# Altium schematic symbol library FMCW-Radar-v1.SchLib: 60 symbols (part 1 of 3)
Pins are listed as number, name and electrical type; pins without a type are passive.

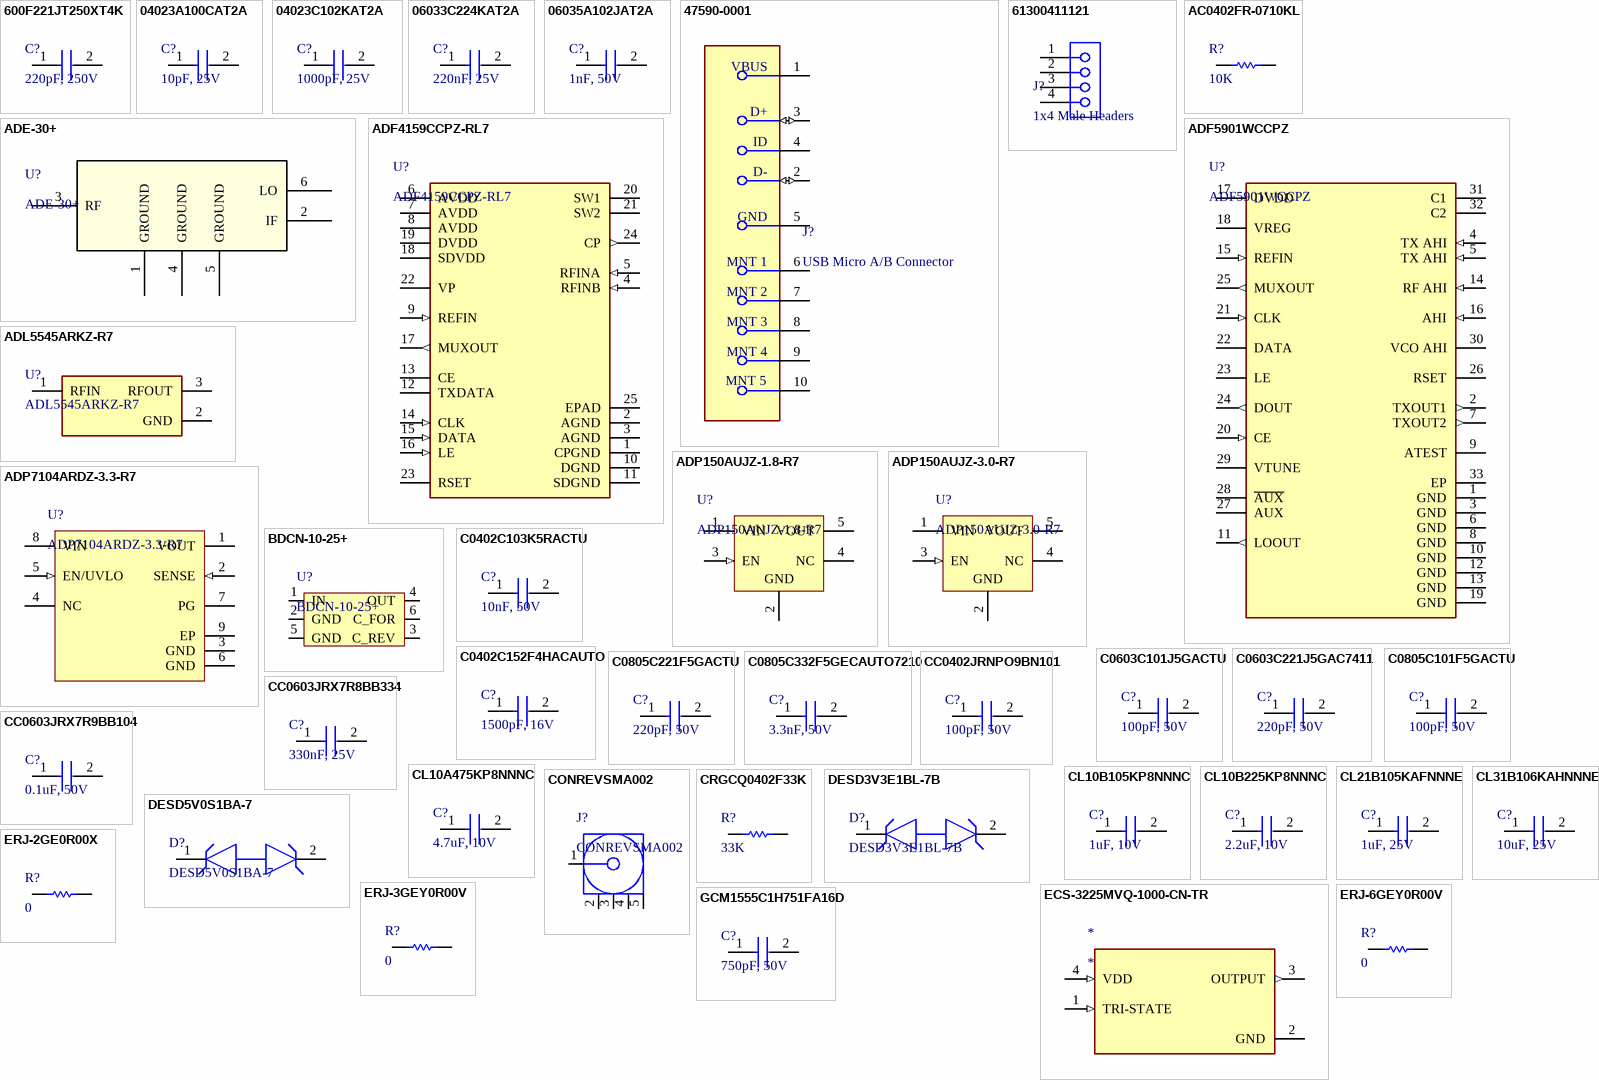
[diagram p0: symbols 600F221JT250XT4K to GCM1555C1H751FA16D]

## 600F221JT250XT4K
designator C?, comment 220pF, 250V
Cap Cer 220PF 250V C0G/NP0 0805; Manufacturer: Kyocera AVX; Manufacturer Part Number: 600F221JT250XT4K; Supplier: Digikey; Supplier Part Number: 478-600F221JT250XT4KCT-ND; RoHS: No; Stock: 4340; Pricing: 1=1.84, 10=1.234, 100=0.9202, 1000=0.75603 (USD)
footprint CAP_600F0R1AT250T_ATC-L
pins: 1, 2

## 04023A100CAT2A
designator C?, comment 10pF, 25V
Ceramic Capacitor, Multilayer, Ceramic, 25V, 2.5% +Tol, 2.5% -Tol, C0G, -/+30ppm/Cel TC, 0.00001uF, Surface Mount, 0402; Manufacturer: Kyocera AVX; Manufacturer Part Number: 04023A100CAT2A; Multilayer: Yes; Supplier: Digikey; Supplier Part Number: 478-12605-1-ND; RoHS: Yes; Category: Ceramic Capacitors; Stock: 37135; Pricing: 1=0.1, 10=0.031, 100=0.0176, 1000=0.01095, 2500=0.00932, 5000=0.00834 (USD); Mounting Technology: Surface Mount; Pins: 2; Dielectric Material: Ceramic; Package Shape: Rectangular; Case/Package: 0402; Terminal Finish: Nickel; Min Operating Temperature: -55°C; Max Operating Temperature: 125°C; JESD-609 Code: e3; Value: 10pF; Capacitor Type: Ceramic; Tolerance  (fill in as +-): 2.5%; Package Style: SMTMeter; Packaging: Tape and Reel; Tolerance (fill in as +-): 2.5%; Rated DC Voltage (URdc): 25V; Temperature Characteristics Code: C0G; Termination: Wraparound; Length: 1mm; Width: 0.5mm; Height: 0.56mm; Reach SVHC Compliant: Yes; RoHS Compliant: Yes; ComponentLink1URL: https://datasheet.ciiva.com:443/pdfs/VipMasterIC/IC/AVXC/AVXCS08560/AVXCS08560-1.pdf?src-supplier=IHS+Markit; ComponentLink1Description: https://datasheet.ciiva.com:443/pdfs/VipMasterIC/IC/AVXC/AVXCS08560/AVXCS08560-1.pdf?src-supplier=IHS+Markit; ComponentLink2URL: https://datasheet.ciiva.com/206/ccog-206334.pdf?src-supplier=Digikey; ComponentLink2Description: https://datasheet.ciiva.com/206/ccog-206334.pdf?src-supplier=Digikey; ComponentLink3URL: https://datasheet.ciiva.com/11519/ccog-11519270.pdf?src-supplier=Avnet; ComponentLink3Description: https://datasheet.ciiva.com/11519/ccog-11519270.pdf?src-supplier=Avnet; ComponentLink4URL: https://datasheet.ciiva.com/5419/ccog-5419960.pdf?src-supplier=Mouser; ComponentLink4Description: https://datasheet.ciiva.com/5419/ccog-5419960.pdf?src-supplier=Mouser; ComponentLink5URL: https://datasheet.ciiva.com/15212/getdatasheetpartid-659848-15212012.pdf?src-supplier=Verical; ComponentLink5Description: https://datasheet.ciiva.com/15212/getdatasheetpartid-659848-15212012.pdf?src-supplier=Verical
footprint CAPC1005X56X25NL10T15 (Chip Capacitor, 2-Leads, Body 1.00x0.50mm, IPC Medium Density)
pins: 1, 2

## 04023C102KAT2A
designator C?, comment 1000pF, 25V
Ceramic Capacitor, Multilayer, Ceramic, 25V, 10% +Tol, 10% -Tol, X7R, 15% TC, 0.001uF, Surface Mount, 0402; Manufacturer: Kyocera AVX; Manufacturer Part Number: 04023C102KAT2A; Value: 1nF; Multilayer: Yes; Supplier: Avnet; Supplier Part Number: 94W2836; RoHS: Yes; Category: Ceramic Capacitors; Stock: 13496; Pricing: 1=0.27, 25=0.179, 100=0.101, 250=0.089, 500=0.077 (USD); Mounting Technology: Surface Mount; Pins: 2; Dielectric Material: Ceramic; Package Shape: Rectangular; Case/Package: 0402; Terminal Finish: Nickel; Min Operating Temperature: -55°C; Max Operating Temperature: 125°C; JESD-609 Code: e3; Capacitor Type: Ceramic; Tolerance  (fill in as +-): 10%; Package Style: SMTMeter; Packaging: Tape and Reel; Tolerance (fill in as +-): 10%; Rated DC Voltage (URdc): 25V; Temperature Characteristics Code: X7R; Termination: Wraparound; Length: 1mm; Width: 0.5mm; Height: 0.56mm; Reach SVHC Compliant: Yes; RoHS Compliant: Yes; ComponentLink1URL: https://datasheet.ciiva.com:443/pdfs/VipMasterIC/IC/AVXC/AVXC-S-A0009640452/AVXC-S-A0009640452-1.pdf?src-supplier=IHS+Markit; ComponentLink1Description: https://datasheet.ciiva.com:443/pdfs/VipMasterIC/IC/AVXC/AVXC-S-A0009640452/AVXC-S-A0009640452-1.pdf?src-supplier=IHS+Markit; ComponentLink2URL: https://datasheet.ciiva.com/150/cx7r-150269.pdf?src-supplier=Digikey; ComponentLink2Description: https://datasheet.ciiva.com/150/cx7r-150269.pdf?src-supplier=Digikey; ComponentLink3URL: https://datasheet.ciiva.com/150/cx7r-150270.pdf?src-supplier=Digikey; ComponentLink3Description: https://datasheet.ciiva.com/150/cx7r-150270.pdf?src-supplier=Digikey; ComponentLink4URL: https://datasheet.ciiva.com/150/cx7r-150271.pdf?src-supplier=Digikey; ComponentLink4Description: https://datasheet.ciiva.com/150/cx7r-150271.pdf?src-supplier=Digikey; ComponentLink5URL: https://datasheet.ciiva.com/5416/cx7r-218113-5416554.pdf?src-supplier=Mouser; ComponentLink5Description: https://datasheet.ciiva.com/5416/cx7r-218113-5416554.pdf?src-supplier=Mouser; ComponentLink6URL: https://datasheet.ciiva.com/22619/1679506-22619707.pdf?src-supplier=Element14; ComponentLink6Description: https://datasheet.ciiva.com/22619/1679506-22619707.pdf?src-supplier=Element14; ComponentLink7URL: https://datasheet.ciiva.com/16395/cx7r-16395543.pdf?src-supplier=Future+Electronics; ComponentLink7Description: https://datasheet.ciiva.com/16395/cx7r-16395543.pdf?src-supplier=Future+Electronics; ComponentLink8URL: https://datasheet.ciiva.com/28453/1679506-28453691.pdf?src-supplier=Element14; ComponentLink8Description: https://datasheet.ciiva.com/28453/1679506-28453691.pdf?src-supplier=Element14
footprint FP-0402-L_1_0_1-W_0_5_0_1-IPC_C
pins: 1, 2

## 06033C224KAT2A
designator C?, comment 220nF, 25V
Ceramic Capacitor, Multilayer, Ceramic, 25V, 10% +Tol, 10% -Tol, X7R, 15% TC, 0.22uF, Surface Mount, 0603; Manufacturer: Kyocera AVX; Manufacturer Part Number: 06033C224KAT2A; Multilayer: Yes; Supplier: Mouser; Supplier Part Number: 581-06033C224KAT2A; RoHS: Yes; Category: Ceramic Capacitors; Stock: 50562; Pricing: 1=0.27, 10=0.264, 50=0.264, 100=0.254, 1000=0.254, 10000=0.239 (USD); Mounting Technology: Surface Mount; Pins: 2; Dielectric Material: Ceramic; Package Shape: Rectangular; Case/Package: 0603; Terminal Finish: Nickel; Min Operating Temperature: -55°C; Max Operating Temperature: 125°C; JESD-609 Code: e3; Value: 220nF; Capacitor Type: Ceramic; Tolerance  (fill in as +-): 10%; Package Style: SMTMeter; Packaging: Tape and Reel; Tolerance (fill in as +-): 10%; Rated DC Voltage (URdc): 25V; Temperature Characteristics Code: X7R; Termination: Wraparound; Length: 1.6mm; Width: 0.81mm; Height: 0.94mm; Reach SVHC Compliant: Yes; RoHS Compliant: Yes; ComponentLink1URL: https://datasheet.ciiva.com:443/pdfs/VipMasterIC/IC/AVXC/AVXC-S-A0009640452/AVXC-S-A0009640452-1.pdf?src-supplier=IHS+Markit; ComponentLink1Description: https://datasheet.ciiva.com:443/pdfs/VipMasterIC/IC/AVXC/AVXC-S-A0009640452/AVXC-S-A0009640452-1.pdf?src-supplier=IHS+Markit; ComponentLink2URL: https://datasheet.ciiva.com/11557/cx7r-11557469.pdf?src-supplier=Avnet; ComponentLink2Description: https://datasheet.ciiva.com/11557/cx7r-11557469.pdf?src-supplier=Avnet; ComponentLink3URL: https://datasheet.ciiva.com/1124/1679506-1124598.pdf?src-supplier=Element14; ComponentLink3Description: https://datasheet.ciiva.com/1124/1679506-1124598.pdf?src-supplier=Element14; ComponentLink4URL: https://datasheet.ciiva.com/22700/1679506-22700567.pdf?src-supplier=Element14; ComponentLink4Description: https://datasheet.ciiva.com/22700/1679506-22700567.pdf?src-supplier=Element14; ComponentLink5URL: https://datasheet.ciiva.com/15212/getdatasheetpartid-224009-15212215.pdf?src-supplier=Verical; ComponentLink5Description: https://datasheet.ciiva.com/15212/getdatasheetpartid-224009-15212215.pdf?src-supplier=Verical; ComponentLink6URL: https://datasheet.ciiva.com/7855/1679506-7855048.pdf?src-supplier=Element14; ComponentLink6Description: https://datasheet.ciiva.com/7855/1679506-7855048.pdf?src-supplier=Element14
footprint FP-0603-L_1_6_0_15-W_0_81-IPC_C
pins: 1, 2

## 06035A102JAT2A
designator C?, comment 1nF, 50V
Ceramic Capacitor, Multilayer, Ceramic, 50V, 5% +Tol, 5% -Tol, C0G, 30ppm/Cel TC, 0.001uF, Surface Mount, 0603; Manufacturer: Kyocera AVX; Manufacturer Part Number: 06035A102JAT2A; Multilayer: Yes; Supplier: Digikey; Supplier Part Number: 478-KGM15ACG1H102JTCT-ND; RoHS: Yes; Category: Ceramic Capacitors; Stock: 540000; Pricing: 4000=0.00488, 8000=0.00454, 16000=0.00447, 24000=0.00439, 32000=0.00431 (USD); Mounting Technology: Surface Mount; Pins: 2; Dielectric Material: Ceramic; Package Shape: Rectangular; Case/Package: 0603; Terminal Finish: Nickel; Min Operating Temperature: -55°C; Max Operating Temperature: 125°C; JESD-609 Code: e3; Value: 1nF; Capacitor Type: Ceramic; Tolerance  (fill in as +-): 5%; Package Style: SMTMeter; Packaging: Tape and Reel; Tolerance (fill in as +-): 5%; Rated DC Voltage (URdc): 50V; Temperature Characteristics Code: C0G; Termination: Wraparound; Length: 1.6mm; Width: 0.81mm; Height: 0.9mm; RoHS Compliant: Yes; Reach SVHC Compliant: Yes; ComponentLink1URL: https://datasheet.ciiva.com:443/pdfs/VipMasterIC/IC/AVXC/AVXC-S-A0008899940/AVXC-S-A0008899940-1.pdf?src-supplier=IHS+Markit; ComponentLink1Description: https://datasheet.ciiva.com:443/pdfs/VipMasterIC/IC/AVXC/AVXC-S-A0008899940/AVXC-S-A0008899940-1.pdf?src-supplier=IHS+Markit; ComponentLink2URL: https://datasheet.ciiva.com/11786/0900766b802d4697-11786950.pdf?src-supplier=Rs; ComponentLink2Description: https://datasheet.ciiva.com/11786/0900766b802d4697-11786950.pdf?src-supplier=Rs; ComponentLink3URL: https://datasheet.ciiva.com/11464/ccog-11464573.pdf?src-supplier=Avnet; ComponentLink3Description: https://datasheet.ciiva.com/11464/ccog-11464573.pdf?src-supplier=Avnet; ComponentLink4URL: https://datasheet.ciiva.com/16363/ccog-16363640.pdf?src-supplier=Future+Electronics; ComponentLink4Description: https://datasheet.ciiva.com/16363/ccog-16363640.pdf?src-supplier=Future+Electronics; ComponentLink5URL: https://datasheet.ciiva.com/1124/759117-1124717.pdf?src-supplier=Element14; ComponentLink5Description: https://datasheet.ciiva.com/1124/759117-1124717.pdf?src-supplier=Element14; ComponentLink6URL: https://datasheet.ciiva.com/1124/759117-1124716.pdf?src-supplier=Element14; ComponentLink6Description: https://datasheet.ciiva.com/1124/759117-1124716.pdf?src-supplier=Element14; ComponentLink7URL: https://datasheet.ciiva.com/1466/26712-1466099.pdf?src-supplier=Farnell; ComponentLink7Description: https://datasheet.ciiva.com/1466/26712-1466099.pdf?src-supplier=Farnell; ComponentLink8URL: https://datasheet.ciiva.com/1124/26712-1124715.pdf?src-supplier=Element14; ComponentLink8Description: https://datasheet.ciiva.com/1124/26712-1124715.pdf?src-supplier=Element14; ComponentLink9URL: https://datasheet.ciiva.com/150/ccog-150886.pdf?src-supplier=Digikey; ComponentLink9Description: https://datasheet.ciiva.com/150/ccog-150886.pdf?src-supplier=Digikey; ComponentLink10URL: https://datasheet.ciiva.com/150/ccog-150885.pdf?src-supplier=Digikey; ComponentLink10Description: https://datasheet.ciiva.com/150/ccog-150885.pdf?src-supplier=Digikey; ComponentLink11URL: https://datasheet.ciiva.com/150/ccog-150887.pdf?src-supplier=Digikey; ComponentLink11Description: https://datasheet.ciiva.com/150/ccog-150887.pdf?src-supplier=Digikey; ComponentLink12URL: https://datasheet.ciiva.com/14585/70001039-14585948.pdf?src-supplier=Allied+Electronics; ComponentLink12Description: https://datasheet.ciiva.com/14585/70001039-14585948.pdf?src-supplier=Allied+Electronics
footprint FP-0603-L_1_6_0_15-W_0_81-IPC_C
pins: 1, 2

## 47590-0001
designator J?, comment USB Micro A/B Connector
USB Connector, 5 Contact(s), Female, Right Angle, Surface Mount Terminal, Locking, Receptacle; Manufacturer: Molex; Manufacturer Part Number: 47590-0001; Connector Type: TELECOM AND DATACOM CONNECTOR; Option: General Purpose; Additional Feature: Shielded; Board Mounting Option: PEG; Contact Resistance: 30mR; Dielectric Withstanding Voltage (AC): 141V; Durability: 10000Cycles; Empty Shell: No; Insulation Resistance: 1GR; Number Of Connectors: 1; PCB Contact Pattern: RECTANGULAR; Polarization Key: POLAR PIN POSITION; Rated Current (Signal): 1A; Number of Contacts: 5; Body Breadth: 0.118inch; Body Depth: 0.232inch; Body Length: 0.295inch; Reference Standard: UL; Reliability: COMMERCIAL; Supplier: Digikey; Supplier Part Number: WM17144TR-ND; RoHS: Yes; Category: USB Connectors; Stock: 34500; Pricing: 1500=0.44663, 3000=0.42531, 4500=0.41332, 7500=0.39869, 10500=0.38935, 15000=0.37968 (USD); Mounting Technology: Cable; Contact Material: Copper Alloy; Contact Finish - Mating: GOLD; Contact Finish - Termination: Gold (Au); Insulation Material: Polymer; Shell Finish: Tin; Shell Material: Stainless Steel; Min Operating Temperature: -30°C; Max Operating Temperature: 85°C; JESD-609 Code: e4; Body/Shell Style: RECEPTACLE; Contact Gender: Female; Filter Feature: No; Mixed Contacts: No; Mounting Style: RIGHT ANGLE; Number Of PCB Rows: 1; Termination: SMD/SMT; Mounting Option 1: LOCKING; Terminal Pitch: 0.6604mm; Reach SVHC Compliant: Yes; RoHS Compliant: Yes; DIN Conformance: No; IEC Conformance: No; MIL Conformance: No; ComponentLink1URL: https://datasheet.ciiva.com:443/pdfs/VipMasterIC/IC/MOLE/MOLE-S-A0000442751/MOLE-S-A0000443003-1.pdf?src-supplier=IHS+Markit; ComponentLink1Description: https://datasheet.ciiva.com:443/pdfs/VipMasterIC/IC/MOLE/MOLE-S-A0000442751/MOLE-S-A0000443003-1.pdf?src-supplier=IHS+Markit; ComponentLink2URL: https://datasheet.ciiva.com/11731/0900766b80dfe0a6-11731294.pdf?src-supplier=Rs; ComponentLink2Description: https://datasheet.ciiva.com/11731/0900766b80dfe0a6-11731294.pdf?src-supplier=Rs; ComponentLink3URL: https://datasheet.ciiva.com/1098/1597781-1098479.pdf?src-supplier=Element14; ComponentLink3Description: https://datasheet.ciiva.com/1098/1597781-1098479.pdf?src-supplier=Element14; ComponentLink4URL: https://datasheet.ciiva.com/30249/0475900001-io-connectors-30249603.pdf?src-supplier=Onlinecomponents.com; ComponentLink4Description: https://datasheet.ciiva.com/30249/0475900001-io-connectors-30249603.pdf?src-supplier=Onlinecomponents.com; ComponentLink5URL: https://datasheet.ciiva.com/26930/getdatasheetpartid-760223-26930053.pdf?src-supplier=Verical; ComponentLink5Description: https://datasheet.ciiva.com/26930/getdatasheetpartid-760223-26930053.pdf?src-supplier=Verical; ComponentLink6URL: https://datasheet.ciiva.com/16148/0475900001-io-connectors-16148922.pdf?src-supplier=Onlinecomponents.com; ComponentLink6Description: https://datasheet.ciiva.com/16148/0475900001-io-connectors-16148922.pdf?src-supplier=Onlinecomponents.com
footprint FP-47590-0001-MFG
pins: 1 VBUS (power), 2 D- (io), 3 D+ (io), 4 ID, 5 GND (power), 6 MNT 1, 7 MNT 2, 8 MNT 3, 9 MNT 4, 10 MNT 5

## 61300411121
designator J?, comment 1x4 Male Headers
Board Connector, 4 Contact(s), 1 Row(s), Male, Straight, 0.1 inch Pitch, Solder Terminal, Locking, Black Insulator, Plug; Manufacturer: Wurth Electronics; Manufacturer Part Number: 61300411121; Contact Pattern: RECTANGULAR; Contact Resistance: 20mR; Contact Style: SQ PIN-SKT; Dielectric Withstanding Voltage (AC): 500V; Insulation Resistance: 1GR; Number Of Connectors: 1; Rated Current (Signal): 3A; Number of Contacts: 4; Body Length: 0.4inch; Reference Standard: UL; Reliability: COMMERCIAL; Supplier: Digikey; Supplier Part Number: 732-5317-ND; RoHS: Yes; Category: Headers and Wire Housings; Stock: 73347; Pricing: 1=0.17, 10=0.147, 25=0.1216, 50=0.1018, 100=0.0918, 1000=0.085 (USD); Mounting Technology: Board; Contact Material: Copper Alloy; Contact Finish - Mating: GOLD; Contact Finish - Termination: Gold (Au) - with Nickel (Ni) barrier; Insulation Color: Black; Insulation Material: Polybutylene; Min Operating Temperature: -40°C; Max Operating Temperature: 125°C; Connector Type: BOARD CONNECTOR; JESD-609 Code: e4; Body/Shell Style: PLUG; Contact Gender: Male; Mounting Style: STRAIGHT; Number of Rows Loaded: 1; PCB Contact Pattern: RECTANGULAR; Termination: Solder; Body Breadth: 0.1inch; Body Depth: 0.1inch; Mating Contact Pitch: 0.1inch; Mounting Option 1: LOCKING; Terminal Length: 0.118inch; Terminal Pitch: 2.54mm; Reach SVHC Compliant: Yes; RoHS Compliant: Yes; ComponentLink1URL: https://datasheet.ciiva.com:443/pdfs/VipMasterIC/IC/MIDC/MIDCS07676/MIDCS07676-1.pdf?src-supplier=IHS+Markit; ComponentLink1Description: https://datasheet.ciiva.com:443/pdfs/VipMasterIC/IC/MIDC/MIDCS07676/MIDCS07676-1.pdf?src-supplier=IHS+Markit; ComponentLink2URL: https://datasheet.octopart.com/61300411121-W%C3%BCrth-Elektronik-datasheet-21154836.pdf?src-supplier=Element14; ComponentLink2Description: https://datasheet.octopart.com/61300411121-W%C3%BCrth-Elektronik-datasheet-21154836.pdf?src-supplier=Element14; ComponentLink3URL: http://www.farnell.com/cad/1737268.pdf?src-supplier=Element14; ComponentLink3Description: http://www.farnell.com/cad/1737268.pdf?src-supplier=Element14; ComponentLink4URL: https://katalog.we-online.de/em/datasheet/6130xx11121.pdf?src-supplier=Digikey; ComponentLink4Description: https://katalog.we-online.de/em/datasheet/6130xx11121.pdf?src-supplier=Digikey
footprint 61300411121 (Pin Header, pitch 2.54 mm, THT, Vertical, single row, 4p)
pins: 1, 2, 3, 4

## AC0402FR-0710KL
designator R?, comment 10K
Fixed Resistor, Metal Glaze/thick Film, 0.0625W, 10000ohm, 50V, 1% +/-Tol, 100ppm/Cel, Surface Mount, 0402; Manufacturer: Yageo; Manufacturer Part Number: AC0402FR-0710KL; Additional Feature: LASER TRIMMABLE; Power: 62.5mW; Rated Temperature: 70°C; Value: 10kR; Temperature Coefficient (ppm/Cel): 100; Package Height: 0.32mm; Package Length: 1mm; Package Width: 0.5mm; Reference Standard: AEC-Q200; Supplier: Digikey; Supplier Part Number: YAG3436CT-ND; RoHS: Yes; Category: Chip SMD Resistors; Stock: 889565; Pricing: 1=0.1, 10=0.009, 100=0.0082, 1000=0.00612, 2500=0.0051, 5000=0.00407 (USD); Mounting Technology: Surface Mount; Pins: 2; Package Shape: Rectangular; Case/Package: 0402; Terminal Finish: Nickel; Min Operating Temperature: -55°C; Max Operating Temperature: 155°C; Tolerance: 1%; JESD-609 Code: e3; Resistor Type: FIXED RESISTOR; Construction: Chip; Packaging: Tape and Reel; Technology: METAL GLAZE/THICK FILM; Termination: Wraparound; Working Voltage: 50V; Reach SVHC Compliant: Yes; RoHS Compliant: Yes; ComponentLink1URL: https://datasheet.ciiva.com:443/pdfs/VipMasterIC/IC/YAGO/YAGO-S-A0003597364/YAGO-S-A0003597364-1.pdf?src-supplier=IHS+Markit; ComponentLink1Description: https://datasheet.ciiva.com:443/pdfs/VipMasterIC/IC/YAGO/YAGO-S-A0003597364/YAGO-S-A0003597364-1.pdf?src-supplier=IHS+Markit; ComponentLink2URL: https://datasheet.ciiva.com/12656/pyu-ac-51-rohs-l-2-12656634.pdf?src-supplier=Mouser; ComponentLink2Description: https://datasheet.ciiva.com/12656/pyu-ac-51-rohs-l-2-12656634.pdf?src-supplier=Mouser
footprint RESC1005X37N
pins: 1, 2

## ADE-30+
designator U?
IC MIXER 200MHZ-3GHZ SMD; Manufacturer: Mini-Circuits; Supplier: Digikey; Supplier Part Number: 3157-ADE-30+CT-ND; Manufacturer Part Number: ADE-30+
footprint CD542_MNC
pins: 1 GROUND (power), 2 IF, 3 RF, 4 GROUND (power), 5 GROUND (power), 6 LO

## ADF4159CCPZ-RL7
designator U?
Phase Detector, BICMOS, PQCC24; Manufacturer: Analog Devices; Package Body Material: Plastic; Package Equivalence Code: LCC24,.16SQ,20; Power Supplies: 1.8,3/3.3V; Supply Current-Max (Isup): 40mA; Qualification Status: Not Qualified; Supplier: Digikey; Supplier Part Number: ADF4159CCPZ-RL7CT-ND; Manufacturer Part Number: ADF4159CCPZ-RL7; RoHS: Yes; Category: Clock Generators, PLLs, Frequency Synthesizers; Stock: 2721; Pricing: 1=20.87, 10=14.857, 25=13.2904, 100=12.1125 (USD); Case/Package: QCCN; Pins: 24; Package Shape: Square; Terminal Finish: Tin; Min Operating Temperature: -40°C; Max Operating Temperature: 125°C; JESD-609 Code: e3; Throw Configuration: PHASE DETECTOR; Moisture Sensitivity Level: 3; Package Style: CHIP CARRIERMeter; Peak Reflow Temperature (Cel): 260°C; Surface Mount: Yes; Technology: BICMOS; Terminal Form: No Lead; Terminal Position: QUAD; Terminal Pitch: 0.5mm; Temperature Grade: AUTOMOTIVE; Reach SVHC Compliant: Yes; RoHS Compliant: Yes; ComponentLink1URL: https://datasheet.ciiva.com:443/pdfs/VipMasterIC/IC/ANDI/ANDIS20486/ANDIS20486-1.pdf?src-supplier=IHS+Markit; ComponentLink1Description: https://datasheet.ciiva.com:443/pdfs/VipMasterIC/IC/ANDI/ANDIS20486/ANDIS20486-1.pdf?src-supplier=IHS+Markit; ComponentLink2URL: http://components.arrow.com/part/dataview/56351364S549242N2771?src-supplier=Arrow+Electronics; ComponentLink2Description: http://components.arrow.com/part/dataview/56351364S549242N2771?src-supplier=Arrow+Electronics; ComponentLink3URL: http://www.mouser.com/ds/2/609/ADF4159-878383.pdf?src-supplier=Mouser; ComponentLink3Description: http://www.mouser.com/ds/2/609/ADF4159-878383.pdf?src-supplier=Mouser; ComponentLink4URL: http://www.analog.com/static/imported-files/data_sheets/ADF4159.pdf?src-supplier=Avnet; ComponentLink4Description: http://www.analog.com/static/imported-files/data_sheets/ADF4159.pdf?src-supplier=Avnet; ComponentLink5URL: https://www.analog.com/media/en/technical-documentation/data-sheets/ADF4159.pdf?src-supplier=Digikey; ComponentLink5Description: https://www.analog.com/media/en/technical-documentation/data-sheets/ADF4159.pdf?src-supplier=Digikey; ComponentLink6URL: https://datasheet.octopart.com/ADF4159CCPZ-RL7-Analog-Devices-datasheet-28359207.pdf?src-supplier=Newark; ComponentLink6Description: https://datasheet.octopart.com/ADF4159CCPZ-RL7-Analog-Devices-datasheet-28359207.pdf?src-supplier=Newark; ComponentLink7URL: https://datasheet.octopart.com/ADF4159CCPZ-RL7-Analog-Devices-datasheet-140566762.pdf?src-supplier=Arrow.cn; ComponentLink7Description: https://datasheet.octopart.com/ADF4159CCPZ-RL7-Analog-Devices-datasheet-140566762.pdf?src-supplier=Arrow.cn
pins: 1 CPGND (power), 2 AGND (power), 3 AGND (power), 4 RFINB (in), 5 RFINA (in), 6 AVDD (power), 7 AVDD (power), 8 AVDD (power), 9 REFIN (in), 10 DGND (power), 11 SDGND (power), 12 TXDATA, 13 CE, 14 CLK (in), 15 DATA (in), 16 LE (in), 17 MUXOUT (out), 18 SDVDD (power), 19 DVDD (power), 20 SW1, 21 SW2, 22 VP (power), 23 RSET, 24 CP (out), 25 EPAD (power)

## ADF5901WCCPZ
designator U?
Telecom Circuit, 1-Func; Manufacturer: Analog Devices; Throw Configuration: ANALOG CIRCUIT; Channels: 1; Max Supply Voltage: 3.465V; Min Supply Voltage: 3.135V; Nominal Supply Voltage: 3.3V; Time @ Peak Reflow Temperature-Max (s): 30s; Supplier: Digikey; Supplier Part Number: ADF5901WCCPZ-ND; Manufacturer Part Number: ADF5901WCCPZ; RoHS: Yes; Category: RF Receivers, Transceivers; Stock: 53; Pricing: 1=45.23, 19=32.46263 (USD); Case/Package: HVQCCN; Pins: 32; Package Shape: Square; Terminal Finish: Tin; Min Operating Temperature: -40°C; Max Operating Temperature: 105°C; JESD-609 Code: e3; JESD-30 Code: S-XQCC-N32; Moisture Sensitivity Level: 3; Package Style: CHIP CARRIER, HEAT SINK/SLUG, VERY THIN PROFILEMeter; Peak Reflow Temperature (Cel): 260°C; Surface Mount: Yes; Terminal Form: No Lead; Terminal Position: QUAD; Length: 5mm; Width: 5mm; Height - Seated (Max): 0.8mm; Terminal Pitch: 0.5mm; Reach SVHC Compliant: Yes; RoHS Compliant: Yes; Temperature Grade: INDUSTRIAL; ComponentLink1URL: https://datasheet.ciiva.com:443/pdfs/VipMasterIC/IC/ANDI/ANDI-S-A0004584065/ANDI-S-A0004584065-1.pdf?src-supplier=IHS+Markit; ComponentLink1Description: https://datasheet.ciiva.com:443/pdfs/VipMasterIC/IC/ANDI/ANDI-S-A0004584065/ANDI-S-A0004584065-1.pdf?src-supplier=IHS+Markit; ComponentLink2URL: https://datasheet.octopart.com/ADF5901WCCPZ-Analog-Devices-datasheet-66325438.pdf?src-supplier=Element14; ComponentLink2Description: https://datasheet.octopart.com/ADF5901WCCPZ-Analog-Devices-datasheet-66325438.pdf?src-supplier=Element14; ComponentLink3URL: https://www.analog.com/media/en/technical-documentation/data-sheets/ADF5901.pdf?src-supplier=Digikey; ComponentLink3Description: https://www.analog.com/media/en/technical-documentation/data-sheets/ADF5901.pdf?src-supplier=Digikey
pins: 1 GND (power), 2 TXOUT1 (out), 3 GND (power), 4 TX AHI (in), 5 TX AHI (in), 6 GND (power), 7 TXOUT2 (out), 8 GND (power), 9 ATEST, 10 GND (power), 11 LOOUT (out), 12 GND (power), 13 GND (power), 14 RF AHI (in), 15 REFIN (in), 16 AHI (in), 17 DVDD (power), 18 VREG, 19 GND (power), 20 CE (in), 21 CLK (in), 22 DATA, 23 LE, 24 DOUT (out), 25 MUXOUT (out), 26 RSET, 27 AUX, 28 ~{AUX}, 29 VTUNE, 30 VCO AHI, 31 C1, 32 C2, 33 EP (power)

## ADL5545ARKZ-R7
designator U?
Wide Band Medium Power Amplifier, 30MHz Min, 6000MHz Max, 1 Func, BIPolar; Manufacturer: Analog Devices; Supplier: Digikey; Supplier Part Number: 505-ADL5545ARKZ-R7CT-ND; Manufacturer Part Number: ADL5545ARKZ-R7; RoHS: Yes; Category: RF Amplifiers; Stock: 532; Pricing: 1=4.14, 10=3.577, 25=3.3816, 100=3.1132, 250=2.95236, 500=2.83876 (USD); RF/Microwave Device Type: WIDE BAND MEDIUM POWER; Reach SVHC Compliant: Yes; RoHS Compliant: Yes; ComponentLink1URL: https://datasheet.ciiva.com:443/pdfs/VipMasterIC/IC/ANDI/ANDIS19839/ANDIS19839-1.pdf?src-supplier=IHS+Markit; ComponentLink1Description: https://datasheet.ciiva.com:443/pdfs/VipMasterIC/IC/ANDI/ANDIS19839/ANDIS19839-1.pdf?src-supplier=IHS+Markit; ComponentLink2URL: https://datasheet.ciiva.com/18576/adl5545-18576150.pdf?src-supplier=Digikey; ComponentLink2Description: https://datasheet.ciiva.com/18576/adl5545-18576150.pdf?src-supplier=Digikey; ComponentLink3URL: https://datasheet.ciiva.com/22628/1800592-22628003.pdf?src-supplier=Element14; ComponentLink3Description: https://datasheet.ciiva.com/22628/1800592-22628003.pdf?src-supplier=Element14; ComponentLink4URL: https://datasheet.ciiva.com/18576/adl5545-18576151.pdf?src-supplier=Digikey; ComponentLink4Description: https://datasheet.ciiva.com/18576/adl5545-18576151.pdf?src-supplier=Digikey; ComponentLink5URL: https://datasheet.ciiva.com/18576/adl5545-18576152.pdf?src-supplier=Digikey; ComponentLink5Description: https://datasheet.ciiva.com/18576/adl5545-18576152.pdf?src-supplier=Digikey
footprint ADL5545ARKZ-R7
pins: 1 RFIN, 2 GND, 3 RFOUT

## ADP150AUJZ-1.8-R7
designator U?
Fixed Positive LDO Regulator, 1.8V, CMOS, PDSO5; Manufacturer: Analog Devices; Package Body Material: Plastic; Dropout Voltage1-Nom: 105mV; Input Voltage Absolute-Max: 6.5V; Max Supply Voltage: 5.5V; Min Input Voltage: 2.2V; Channels: 1; Output Current1-Max: 150mA; Output Voltage1-Max: 1.827V; Output Voltage1-Min: 1.755V; Package Equivalence Code: TSOP5/6,.11,37; Regulator Type: FIXED POSITIVE SINGLE OUTPUT LDO REGULATOR; Time @ Peak Reflow Temperature-Max (s): 40s; Voltage Tolerance-Max: 2.5%; Qualification Status: Not Qualified; Supplier: Mouser; Supplier Part Number: 584-ADP150AUJZ-1.8R7; Manufacturer Part Number: ADP150AUJZ-1.8-R7; RoHS: Yes; Category: Voltage Regulators - Linear; Stock: 3489; Pricing: 1=1.24, 10=0.902, 50=0.817, 100=0.723, 1000=0.605, 10000=0.559 (USD); Case/Package: VSSOP; Pins: 5; Package Shape: Rectangular; Terminal Finish: Tin; JESD-609 Code: e3; Adjustability: FIXED; JESD-30 Code: R-PDSO-G5; Moisture Sensitivity Level: 1; Number of Outputs: 1; Operating Temperature, TJ-Max: 125°C; Operating Temperature, TJ-Min: -40°C; Output Voltage1-Nom: 1.8V; Packaging: Tape and Reel; Peak Reflow Temperature (Cel): 260°C; Surface Mount: Yes; Technology: CMOS; Terminal Form: Gull Wing; Terminal Position: DUAL; Length: 2.9mm; Width: 1.6mm; Height - Seated (Max): 1mm; Terminal Pitch: 0.95mm; Reach SVHC Compliant: Yes; RoHS Compliant: Yes; ComponentLink1URL: https://datasheet.ciiva.com:443/pdfs/VipMasterIC/IC/ANDI/ANDI-S-A0001491086/ANDI-S-A0001491086-1.pdf?src-supplier=IHS+Markit; ComponentLink1Description: https://datasheet.ciiva.com:443/pdfs/VipMasterIC/IC/ANDI/ANDI-S-A0001491086/ANDI-S-A0001491086-1.pdf?src-supplier=IHS+Markit; ComponentLink2URL: https://datasheet.ciiva.com/2040/adp150-2040604.pdf?src-supplier=Digikey; ComponentLink2Description: https://datasheet.ciiva.com/2040/adp150-2040604.pdf?src-supplier=Digikey; ComponentLink3URL: https://datasheet.ciiva.com/2040/adp150-2040605.pdf?src-supplier=Digikey; ComponentLink3Description: https://datasheet.ciiva.com/2040/adp150-2040605.pdf?src-supplier=Digikey; ComponentLink4URL: https://datasheet.ciiva.com/2040/adp150-2040606.pdf?src-supplier=Digikey; ComponentLink4Description: https://datasheet.ciiva.com/2040/adp150-2040606.pdf?src-supplier=Digikey
pins: 1 VIN (power) "Regulator Input Supply. Bypass VIN to GND with a capacitor of at least 1 uF.", 2 GND (power) "Ground.", 3 EN (in) "Enable Input. Drive EN high to turn on the regulator; drive EN low to turn off the regulator. For automatic startup, connect EN to VIN.", 4 NC "No Connect. These pins are not internally bonded. They can be left floating or connected to ground.", 5 VOUT (power) "Regulated Output Voltage. Bypass VOUT to GND with a capacitor of at least 1 uF."

## ADP150AUJZ-3.0-R7
designator U?
Fixed Positive LDO Regulator, 3V, 0.16V Dropout, CMOS, PDSO5; Manufacturer: Analog Devices; Package Body Material: Plastic; Dropout Voltage1-Max: 160mV; Dropout Voltage1-Nom: 105mV; Input Voltage Absolute-Max: 6.5V; Max Supply Voltage: 5.5V; Min Input Voltage: 2.2V; Channels: 1; Output Current1-Max: 150mA; Output Voltage1-Max: 3.045V; Output Voltage1-Min: 2.925V; Package Equivalence Code: TSOP5/6,.11,37; Regulator Type: FIXED POSITIVE SINGLE OUTPUT LDO REGULATOR; Time @ Peak Reflow Temperature-Max (s): 40s; Voltage Tolerance-Max: 2.5%; Qualification Status: Not Qualified; Supplier: Digikey; Supplier Part Number: 505-ADP150AUJZ-3.0-R7CT-ND; Manufacturer Part Number: ADP150AUJZ-3.0-R7; RoHS: Yes; Category: Voltage Regulators - Linear; Stock: 13817; Pricing: 1=2.14, 10=1.333, 25=1.1228, 100=0.8853, 250=0.76864, 500=0.69682, 1000=0.63668 (USD); Case/Package: VSSOP; Pins: 5; Package Shape: Rectangular; Terminal Finish: Tin; JESD-609 Code: e3; Adjustability: FIXED; JESD-30 Code: R-PDSO-G5; Moisture Sensitivity Level: 1; Number of Outputs: 1; Operating Temperature, TJ-Max: 125°C; Operating Temperature, TJ-Min: -40°C; Output Voltage1-Nom: 3V; Packaging: Tape and Reel; Peak Reflow Temperature (Cel): 260°C; Surface Mount: Yes; Technology: CMOS; Terminal Form: Gull Wing; Terminal Position: DUAL; Length: 2.9mm; Width: 1.6mm; Height - Seated (Max): 1mm; Terminal Pitch: 0.95mm; Reach SVHC Compliant: Yes; RoHS Compliant: Yes; ComponentLink1URL: https://datasheet.ciiva.com:443/pdfs/VipMasterIC/IC/ANDI/ANDI-S-A0001491086/ANDI-S-A0001491086-1.pdf?src-supplier=IHS+Markit; ComponentLink1Description: https://datasheet.ciiva.com:443/pdfs/VipMasterIC/IC/ANDI/ANDI-S-A0001491086/ANDI-S-A0001491086-1.pdf?src-supplier=IHS+Markit; ComponentLink2URL: https://datasheet.ciiva.com/2040/adp150-2040595.pdf?src-supplier=Digikey; ComponentLink2Description: https://datasheet.ciiva.com/2040/adp150-2040595.pdf?src-supplier=Digikey; ComponentLink3URL: https://datasheet.ciiva.com/2040/adp150-2040596.pdf?src-supplier=Digikey; ComponentLink3Description: https://datasheet.ciiva.com/2040/adp150-2040596.pdf?src-supplier=Digikey; ComponentLink4URL: https://datasheet.ciiva.com/2040/adp150-2040597.pdf?src-supplier=Digikey; ComponentLink4Description: https://datasheet.ciiva.com/2040/adp150-2040597.pdf?src-supplier=Digikey; ComponentLink5URL: https://datasheet.ciiva.com/3224/adp150-3224650.pdf?src-supplier=Avnet; ComponentLink5Description: https://datasheet.ciiva.com/3224/adp150-3224650.pdf?src-supplier=Avnet; ComponentLink6URL: https://datasheet.ciiva.com/3224/adp150-3224651.pdf?src-supplier=Avnet; ComponentLink6Description: https://datasheet.ciiva.com/3224/adp150-3224651.pdf?src-supplier=Avnet; ComponentLink7URL: https://datasheet.ciiva.com/7993/1780757-7993590.pdf?src-supplier=Element14; ComponentLink7Description: https://datasheet.ciiva.com/7993/1780757-7993590.pdf?src-supplier=Element14
pins: 1 VIN (power) "Regulator Input Supply. Bypass VIN to GND with a capacitor of at least 1 uF.", 2 GND (power) "Ground.", 3 EN (in) "Enable Input. Drive EN high to turn on the regulator; drive EN low to turn off the regulator. For automatic startup, connect EN to VIN.", 4 NC "No Connect. These pins are not internally bonded. They can be left floating or connected to ground.", 5 VOUT (power) "Regulated Output Voltage. Bypass VOUT to GND with a capacitor of at least 1 uF."

## ADP7104ARDZ-3.3-R7
designator U?
Fixed Positive LDO Regulator, 3.3V, 0.55V Dropout, CMOS, PDSO8; Manufacturer: Analog Devices; Package Body Material: Plastic; Dropout Voltage1-Nom: 350mV; Channels: 1; Output Current1-Max: 500mA; Output Voltage1-Max: 3.333V; Output Voltage1-Min: 3.234V; Package Equivalence Code: SOP8,.25; Regulator Type: FIXED POSITIVE SINGLE OUTPUT LDO REGULATOR; Dropout Voltage1-Max: 550mV; Input Voltage Absolute-Max: 22V; Max Supply Voltage: 20V; Line Regulation-Max: 0.0078%; Voltage Tolerance-Max: 2%; Qualification Status: Not Qualified; Supplier: Digikey; Supplier Part Number: 505-ADP7104ARDZ-3.3-R7CT-ND; Manufacturer Part Number: ADP7104ARDZ-3.3-R7; RoHS: Yes; Category: Voltage Regulators - Linear; Stock: 2731; Pricing: 1=7, 10=4.65, 25=4.0376, 100=3.3446, 250=3.00444, 500=2.825 (USD); Case/Package: HSOP; Pins: 8; Package Shape: Rectangular; Terminal Finish: Tin; Adjustability: FIXED; JESD-30 Code: R-PDSO-G8; Operating Temperature, TJ-Max: 125°C; Operating Temperature, TJ-Min: -40°C; Package Style: SMALL OUTLINE, HEAT SINK/SLUGMeter; Packaging: Tape and Reel; Surface Mount: Yes; Technology: CMOS; Terminal Form: Gull Wing; Terminal Position: DUAL; Min Input Voltage: 3.3V; Number of Outputs: 1; Output Voltage1-Nom: 3.3V; JESD-609 Code: e3; Moisture Sensitivity Level: 3; Length: 4.9mm; Width: 3.9mm; Height - Seated (Max): 1.75mm; Terminal Pitch: 1.27mm; Reach SVHC Compliant: Yes; RoHS Compliant: Yes; ComponentLink1URL: https://datasheet.ciiva.com:443/pdfs/VipMasterIC/IC/ANDI/ANDI-S-A0008998722/ANDI-S-A0008998722-1.pdf?src-supplier=IHS+Markit; ComponentLink1Description: https://datasheet.ciiva.com:443/pdfs/VipMasterIC/IC/ANDI/ANDI-S-A0008998722/ANDI-S-A0008998722-1.pdf?src-supplier=IHS+Markit; ComponentLink2URL: https://datasheet.ciiva.com/6589/adp7104-6589770.pdf?src-supplier=Digikey; ComponentLink2Description: https://datasheet.ciiva.com/6589/adp7104-6589770.pdf?src-supplier=Digikey; ComponentLink3URL: https://datasheet.ciiva.com/6589/adp7104-6589771.pdf?src-supplier=Digikey; ComponentLink3Description: https://datasheet.ciiva.com/6589/adp7104-6589771.pdf?src-supplier=Digikey; ComponentLink4URL: https://datasheet.ciiva.com/6589/adp7104-6589773.pdf?src-supplier=Digikey; ComponentLink4Description: https://datasheet.ciiva.com/6589/adp7104-6589773.pdf?src-supplier=Digikey; ComponentLink5URL: https://datasheet.ciiva.com/8241/adp7104-8241802.pdf?src-supplier=Avnet; ComponentLink5Description: https://datasheet.ciiva.com/8241/adp7104-8241802.pdf?src-supplier=Avnet
footprint ADI-RD-8-2_M (SOIC, 8-Leads, Body 4.9x3.9mm, Pitch 1.27mm, Thermal Pad 3.098x2.41mm, IPC Low Density)
pins: 1 VOUT (power) "Regulated Output Voltage. Bypass VOUT to GND with a 1 uF or greater capacitor.", 2 SENSE (in), 3 GND (power) "Ground.", 4 NC "Do Not Connect to this Pin.", 5 EN/UVLO (in), 6 GND (power) "Ground.", 7 PG (oc) "Power Good. This open-drain output requires an external pull-up resistor to VIN or VOUT. If the part is in shutdown, current limit, thermal shutdown, or falls below 90% of the nominal output voltage, PG immediately (See Datasheet)", 8 VIN (power) "Regulator Input Supply. Bypass VIN to GND with a 1 uF or greater capacitor.", 9 EP (power) "Exposed Pad. Exposed paddle on the bottom of the package. The EPAD enhances thermal performance and is electrically connected to GND inside the package. It is highly recommended that the EPAD be connected to the ground plane (See Datasheet)"

## BDCN-10-25+
designator U?
Bi-Directional Coupler, 824MHz Min, 2525MHz Max, 1.5dB Insertion Loss-Max; Manufacturer: Mini-Circuits; Characteristic Impedance: 50R; Operating Frequency-Max: 2.525GHz; VSWR-Max: 1.2; Supplier: Digikey; Supplier Part Number: 3157-BDCN-10-25+CT-ND; Manufacturer Part Number: BDCN-10-25+; RoHS: Yes; Stock: 5826; Pricing: 1=5.44, 20=4.932, 50=4.476, 100=4.176, 200=3.84, 500=3.55202, 1000=3.5037 (USD); Terminal Finish: Nickel; Min Operating Temperature: -55°C; Max Operating Temperature: 100°C; JESD-609 Code: e3; Construction: COMPONENT; Insertion Loss-Max: 1.5dB; Operating Frequency-Min: 824MHz; RF/Microwave Device Type: BI-DIRECTIONAL COUPLER; Reach SVHC Compliant: Yes; RoHS Compliant: Yes; ComponentLink1URL: https://datasheet.ciiva.com:443/pdfs/VipMasterIC/IC/MINI/MINI-S-A0002822080/MINI-S-A0002822080-1.pdf?src-supplier=IHS+Markit; ComponentLink1Description: https://datasheet.ciiva.com:443/pdfs/VipMasterIC/IC/MINI/MINI-S-A0002822080/MINI-S-A0002822080-1.pdf?src-supplier=IHS+Markit; ComponentLink2URL: http://datasheet.octopart.com/BDCN-10-25%2B-Mini-Circuits-datasheet-8617095.pdf?src-supplier=Digikey; ComponentLink2Description: http://datasheet.octopart.com/BDCN-10-25%2B-Mini-Circuits-datasheet-8617095.pdf?src-supplier=Digikey; ComponentLink3URL: http://datasheet.octopart.com/BDCN-10-25%2B-Mini-Circuits-datasheet-8617095.pdf?src-supplier=Mouser; ComponentLink3Description: http://datasheet.octopart.com/BDCN-10-25%2B-Mini-Circuits-datasheet-8617095.pdf?src-supplier=Mouser
footprint BDCN-10-25+
pins: 1 IN, 2 GND, 3 C_REV, 4 OUT, 5 GND, 6 C_FOR

## C0402C103K5RACTU
designator C?, comment 10nF, 50V
Ceramic Capacitor, Multilayer, Ceramic, 50V, 10% +Tol, 10% -Tol, X7R, 15% TC, 0.01uF, Surface Mount, 0402; Manufacturer: KEMET; Manufacturer Part Number: C0402C103K5RACTU; Multilayer: Yes; Supplier: Digikey; Supplier Part Number: 399-C0402C103K5RACTUDKR-ND; RoHS: Yes; Category: Ceramic Capacitors; Stock: 862179; Pricing: 1=0.08, 10=0.005, 100=0.0043 (USD); Mounting Technology: Surface Mount; Pins: 2; Dielectric Material: Ceramic; Package Shape: Rectangular; Case/Package: 0402; Terminal Finish: Nickel; Min Operating Temperature: -55°C; Max Operating Temperature: 125°C; JESD-609 Code: e3; Value: 10nF; Capacitor Type: Ceramic; Tolerance  (fill in as +-): 10%; Package Style: SMTMeter; Packaging: Tape and Reel; Tolerance (fill in as +-): 10%; Rated DC Voltage (URdc): 50V; Temperature Characteristics Code: X7R; Termination: Wraparound; Length: 1mm; Width: 0.5mm; Height: 0.5mm; Reach SVHC Compliant: Yes; RoHS Compliant: Yes; ComponentLink1URL: https://datasheet.ciiva.com:443/pdfs/VipMasterIC/IC/KEME/KEME-S-A0008991654/KEME-S-A0008991654-1.pdf?src-supplier=IHS+Markit; ComponentLink1Description: https://datasheet.ciiva.com:443/pdfs/VipMasterIC/IC/KEME/KEME-S-A0008991654/KEME-S-A0008991654-1.pdf?src-supplier=IHS+Markit; ComponentLink2URL: https://datasheet.ciiva.com/45846/docfinderpartnumberc0402c102k5ractu-45846918.pdf?src-supplier=Onlinecomponents.com; ComponentLink2Description: https://datasheet.ciiva.com/45846/docfinderpartnumberc0402c102k5ractu-45846918.pdf?src-supplier=Onlinecomponents.com
footprint CAPC10555_55N_KEM
pins: 1, 2

## C0402C152F4HACAUTO
designator C?, comment 1500pF, 16V
Ceramic Capacitor, Multilayer, Ceramic, 16V, 1% +Tol, 1% -Tol, X8R, 15% TC, 0.0015uF, Surface Mount, 0402; Manufacturer: KEMET; Manufacturer Part Number: C0402C152F4HACAUTO; Supplier: Digikey; Supplier Part Number: 399-C0402C152F4HACAUTOCT-ND; RoHS: Yes; Category: Ceramic Capacitors; Stock: 19436; Pricing: 1=0.21, 10=0.119, 100=0.0745, 1000=0.05163, 2500=0.0442, 5000=0.04255 (USD); Pins: 2; Dielectric Material: Ceramic; Capacitor Type: Ceramic; Reach SVHC Compliant: Yes; RoHS Compliant: Yes; ComponentLink1URL: https://datasheet.ciiva.com:443/pdfs/VipMasterIC/IC/KEME/KEME-S-A0008958458/KEME-S-A0008958458-1.pdf?src-supplier=IHS+Markit; ComponentLink1Description: https://datasheet.ciiva.com:443/pdfs/VipMasterIC/IC/KEME/KEME-S-A0008958458/KEME-S-A0008958458-1.pdf?src-supplier=IHS+Markit; ComponentLink2URL: https://api.kemet.com/component-edge/download/datasheet/C0402C152F4HACAUTO.pdf?src-supplier=Digikey; ComponentLink2Description: https://api.kemet.com/component-edge/download/datasheet/C0402C152F4HACAUTO.pdf?src-supplier=Digikey
footprint CAPC1005X55N
pins: 1, 2

## C0603C101J5GACTU
designator C?, comment 100pF, 50V
Ceramic Capacitor, Multilayer, Ceramic, 50V, 5% +Tol, 5% -Tol, C0G, 30ppm/Cel TC, 0.0001uF, Surface Mount, 0603; Manufacturer: KEMET; Manufacturer Part Number: C0603C101J5GACTU; Multilayer: Yes; Supplier: Digikey; Supplier Part Number: 399-C0603C101J5GACTUCT-ND; RoHS: Yes; Category: Ceramic Capacitors; Stock: 772000; Pricing: 4000=0.0155, 8000=0.0104 (USD); Mounting Technology: Surface Mount; Pins: 2; Dielectric Material: Ceramic; Package Shape: Rectangular; Case/Package: 0603; Terminal Finish: Nickel; Min Operating Temperature: -55°C; Max Operating Temperature: 125°C; JESD-609 Code: e3; Value: 100pF; Capacitor Type: Ceramic; Tolerance  (fill in as +-): 5%; Package Style: SMTMeter; Packaging: Tape and Reel; Tolerance (fill in as +-): 5%; Rated DC Voltage (URdc): 50V; Temperature Characteristics Code: C0G; Termination: Wraparound; Length: 1.6mm; Width: 0.8mm; Height: 0.8mm; Reach SVHC Compliant: Yes; RoHS Compliant: Yes; ComponentLink1URL: https://datasheet.ciiva.com:443/pdfs/VipMasterIC/IC/KEME/KEME-S-A0005605168/KEME-S-A0005605168-1.pdf?src-supplier=IHS+Markit; ComponentLink1Description: https://datasheet.ciiva.com:443/pdfs/VipMasterIC/IC/KEME/KEME-S-A0005605168/KEME-S-A0005605168-1.pdf?src-supplier=IHS+Markit; ComponentLink2URL: https://datasheet.ciiva.com/6126/f9080b-0402-series-c0g-6126680.pdf?src-supplier=Farnell; ComponentLink2Description: https://datasheet.ciiva.com/6126/f9080b-0402-series-c0g-6126680.pdf?src-supplier=Farnell; ComponentLink3URL: https://datasheet.ciiva.com/28645/1789732-28645525.pdf?src-supplier=Element14; ComponentLink3Description: https://datasheet.ciiva.com/28645/1789732-28645525.pdf?src-supplier=Element14; ComponentLink4URL: https://datasheet.ciiva.com/7823/1725423-7823564.pdf?src-supplier=Element14; ComponentLink4Description: https://datasheet.ciiva.com/7823/1725423-7823564.pdf?src-supplier=Element14; ComponentLink5URL: https://datasheet.ciiva.com/7823/1725423-7823565.pdf?src-supplier=Element14; ComponentLink5Description: https://datasheet.ciiva.com/7823/1725423-7823565.pdf?src-supplier=Element14; ComponentLink6URL: https://datasheet.ciiva.com/7823/f9080b-0402-series-c0g-7823964.pdf?src-supplier=Element14; ComponentLink6Description: https://datasheet.ciiva.com/7823/f9080b-0402-series-c0g-7823964.pdf?src-supplier=Element14; ComponentLink7URL: https://datasheet.ciiva.com/7823/1372242-7823965.pdf?src-supplier=Element14; ComponentLink7Description: https://datasheet.ciiva.com/7823/1372242-7823965.pdf?src-supplier=Element14
footprint CAPC17595_87N_KEM
pins: 1, 2

## C0603C221J5GAC7411
designator C?, comment 220pF, 50V
Ceramic Capacitor, Multilayer, Ceramic, 50V, 5% +Tol, 5% -Tol, C0G, 30ppm/Cel TC, 0.00022uF, Surface Mount, 0603; Manufacturer: KEMET; Manufacturer Part Number: C0603C221J5GAC7411; Multilayer: Yes; Supplier: Digikey; Supplier Part Number: 399-C0603C221J5GAC7411CT-ND; RoHS: Yes; Category: Ceramic Capacitors; Stock: 30000; Pricing: 15000=0.0071, 30000=0.007, 45000=0.0069, 75000=0.0068, 150000=0.0067, 375000=0.0063, 750000=0.0063 (USD); Mounting Technology: Surface Mount; Pins: 2; Dielectric Material: Ceramic; Package Shape: Rectangular; Case/Package: 0603; Terminal Finish: Nickel; Min Operating Temperature: -55°C; Max Operating Temperature: 125°C; JESD-609 Code: e3; Value: 220pF; Capacitor Type: Ceramic; Tolerance  (fill in as +-): 5%; Package Style: SMTMeter; Packaging: Tape and Reel; Tolerance (fill in as +-): 5%; Rated DC Voltage (URdc): 50V; Temperature Characteristics Code: C0G; Termination: Wraparound; Length: 1.6mm; Width: 0.8mm; Height: 0.8mm; Reach SVHC Compliant: Yes; RoHS Compliant: Yes; ComponentLink1URL: https://datasheet.ciiva.com:443/pdfs/VipMasterIC/IC/KEME/KEME-S-A0007600110/KEME-S-A0007595965-1.pdf?src-supplier=IHS+Markit; ComponentLink1Description: https://datasheet.ciiva.com:443/pdfs/VipMasterIC/IC/KEME/KEME-S-A0007600110/KEME-S-A0007595965-1.pdf?src-supplier=IHS+Markit; ComponentLink2URL: https://datasheet.octopart.com/C0603C221J5GAC7411-KEMET-datasheet-149535035.pdf?src-supplier=Farnell; ComponentLink2Description: https://datasheet.octopart.com/C0603C221J5GAC7411-KEMET-datasheet-149535035.pdf?src-supplier=Farnell; ComponentLink3URL: https://api.kemet.com/component-edge/download/datasheet/C0603C221J5GAC7411.pdf?src-supplier=Digikey; ComponentLink3Description: https://api.kemet.com/component-edge/download/datasheet/C0603C221J5GAC7411.pdf?src-supplier=Digikey; ComponentLink4URL: https://datasheet.octopart.com/C0603C221J5GAC7411-Kemet-datasheet-11795438.pdf?src-supplier=Arrow+Electronics; ComponentLink4Description: https://datasheet.octopart.com/C0603C221J5GAC7411-Kemet-datasheet-11795438.pdf?src-supplier=Arrow+Electronics; ComponentLink5URL: https://datasheet.octopart.com/C0603C221J5GAC7411-Kemet-datasheet-5314449.pdf?src-supplier=Verical; ComponentLink5Description: https://datasheet.octopart.com/C0603C221J5GAC7411-Kemet-datasheet-5314449.pdf?src-supplier=Verical; ComponentLink6URL: https://datasheet.octopart.com/C0603C221J5GAC7411-KEMET-datasheet-157246123.pdf?src-supplier=Electro+Sonic; ComponentLink6Description: https://datasheet.octopart.com/C0603C221J5GAC7411-KEMET-datasheet-157246123.pdf?src-supplier=Electro+Sonic
footprint CAPC17595_87N_KEM
pins: 1, 2

## C0805C101F5GACTU
designator C?, comment 100pF, 50V
Ceramic Capacitor, Multilayer, Ceramic, 50V, 1% +Tol, 1% -Tol, C0G, -/+30ppm/Cel TC, 0.0001uF, Surface Mount, 0805; Manufacturer: KEMET; Manufacturer Part Number: C0805C101F5GACTU; Multilayer: Yes; Supplier: Mouser; Supplier Part Number: 80-C0805C101F5G; RoHS: Yes; Category: Ceramic Capacitors; Stock: 3581; Pricing: 1=0.65, 10=0.432, 50=0.432, 100=0.26, 1000=0.193, 10000=0.151 (USD); Mounting Technology: Surface Mount; Pins: 2; Dielectric Material: Ceramic; Package Shape: Rectangular; Case/Package: 0805; Terminal Finish: Nickel; Min Operating Temperature: -55°C; Max Operating Temperature: 125°C; JESD-609 Code: e3; Value: 100pF; Capacitor Type: Ceramic; Tolerance  (fill in as +-): 1%; Packaging: Tape and Reel; Tolerance (fill in as +-): 1%; Rated DC Voltage (URdc): 50V; Temperature Characteristics Code: C0G; Termination: Wraparound; Reach SVHC Compliant: Yes; RoHS Compliant: Yes; ComponentLink1URL: https://datasheet.ciiva.com:443/pdfs/VipMasterIC/IC/KEME/KEME-S-A0003149333/KEME-S-A0003149333-1.pdf?src-supplier=IHS+Markit; ComponentLink1Description: https://datasheet.ciiva.com:443/pdfs/VipMasterIC/IC/KEME/KEME-S-A0003149333/KEME-S-A0003149333-1.pdf?src-supplier=IHS+Markit; ComponentLink2URL: https://datasheet.ciiva.com/5417/kem-c1003-c0g-smd-356956-5417147.pdf?src-supplier=Mouser; ComponentLink2Description: https://datasheet.ciiva.com/5417/kem-c1003-c0g-smd-356956-5417147.pdf?src-supplier=Mouser; ComponentLink3URL: https://datasheet.ciiva.com/11630/kem-c1003-c0g-smd-11630821.pdf?src-supplier=Avnet; ComponentLink3Description: https://datasheet.ciiva.com/11630/kem-c1003-c0g-smd-11630821.pdf?src-supplier=Avnet
footprint CAPC2012X88N
pins: 1, 2

## C0805C221F5GACTU
designator C?, comment 220pF, 50V
Ceramic Capacitor, Multilayer, Ceramic, 50V, 1% +Tol, 1% -Tol, C0G, -/+30ppm/Cel TC, 0.00022uF, Surface Mount, 0805; Manufacturer: KEMET; Manufacturer Part Number: C0805C221F5GACTU; Multilayer: Yes; Supplier: Mouser; Supplier Part Number: 80-C0805C221F5G; RoHS: Yes; Category: Ceramic Capacitors; Stock: 5633; Pricing: 1=0.72, 10=0.486, 50=0.486, 100=0.319, 1000=0.3, 10000=0.241 (USD); Mounting Technology: Surface Mount; Pins: 2; Dielectric Material: Ceramic; Package Shape: Rectangular; Case/Package: 0805; Terminal Finish: Nickel; Min Operating Temperature: -55°C; Max Operating Temperature: 125°C; JESD-609 Code: e3; Value: 220pF; Capacitor Type: Ceramic; Manufacturer Series: C0805C221F5GACTU; Tolerance  (fill in as +-): 1%; Packaging: Tape and Reel; Tolerance (fill in as +-): 1%; Rated DC Voltage (URdc): 50V; Temperature Characteristics Code: C0G; Termination: Wraparound; Reach SVHC Compliant: Yes; RoHS Compliant: Yes; ComponentLink1URL: http://capacitoredge.kemet.com:80/capedge2/DataSheet/Datasheet-C0805C221F5GAC7800.pdf?pn=C0805C221F5GAC7800&src-supplier=IHS+Markit; ComponentLink1Description: http://capacitoredge.kemet.com:80/capedge2/DataSheet/Datasheet-C0805C221F5GAC7800.pdf?pn=C0805C221F5GAC7800&src-supplier=IHS+Markit; ComponentLink2URL: https://datasheet.ciiva.com/5421/kem-c1003-c0g-smd-5421884.pdf?src-supplier=Mouser; ComponentLink2Description: https://datasheet.ciiva.com/5421/kem-c1003-c0g-smd-5421884.pdf?src-supplier=Mouser
footprint CAPC2012X88N
pins: 1, 2

## C0805C332F5GECAUTO7210
designator C?, comment 3.3nF, 50V
Ceramic Capacitor, Multilayer, Ceramic, 50V, 1% +Tol, 1% -Tol, C0G, -/+30ppm/Cel TC, 0.0033uF, Surface Mount, 0805; Manufacturer: KEMET; Manufacturer Part Number: C0805C332F5GECAUTO7210; Supplier: Digikey; Supplier Part Number: 399-C0805C332F5GECAUTO7210CT-ND; RoHS: Yes; Category: Ceramic Capacitors; Stock: 26767; Pricing: 1=1.04, 10=0.667, 100=0.4755, 1000=0.37569, 2500=0.34478, 5000=0.3415 (USD); Pins: 2; Dielectric Material: Ceramic; Capacitor Type: Ceramic; Reach SVHC Compliant: Yes; RoHS Compliant: Yes; ComponentLink1URL: https://datasheet.ciiva.com:443/pdfs/VipMasterIC/IC/KEME/KEME-S-A0008958440/KEME-S-A0008958440-1.pdf?src-supplier=IHS+Markit; ComponentLink1Description: https://datasheet.ciiva.com:443/pdfs/VipMasterIC/IC/KEME/KEME-S-A0008958440/KEME-S-A0008958440-1.pdf?src-supplier=IHS+Markit; ComponentLink2URL: https://api.kemet.com/component-edge/download/datasheet/C0805C332F5GECAUTO7210.pdf?src-supplier=Digikey; ComponentLink2Description: https://api.kemet.com/component-edge/download/datasheet/C0805C332F5GECAUTO7210.pdf?src-supplier=Digikey
footprint CAPC2012X88N
pins: 1, 2